# Altium footprint library con-fpc.PcbLib: 8 footprints
Each footprint in its own frame and in the unit in brackets; x right, y up, seen from the top. Pads: shape width x height; smd on the part's side, far side on the other; paste and mask are expansions set on the pad; w line width, h text height; cw(c..) or ccw(c..) is an arc to the next point about the centre after c.
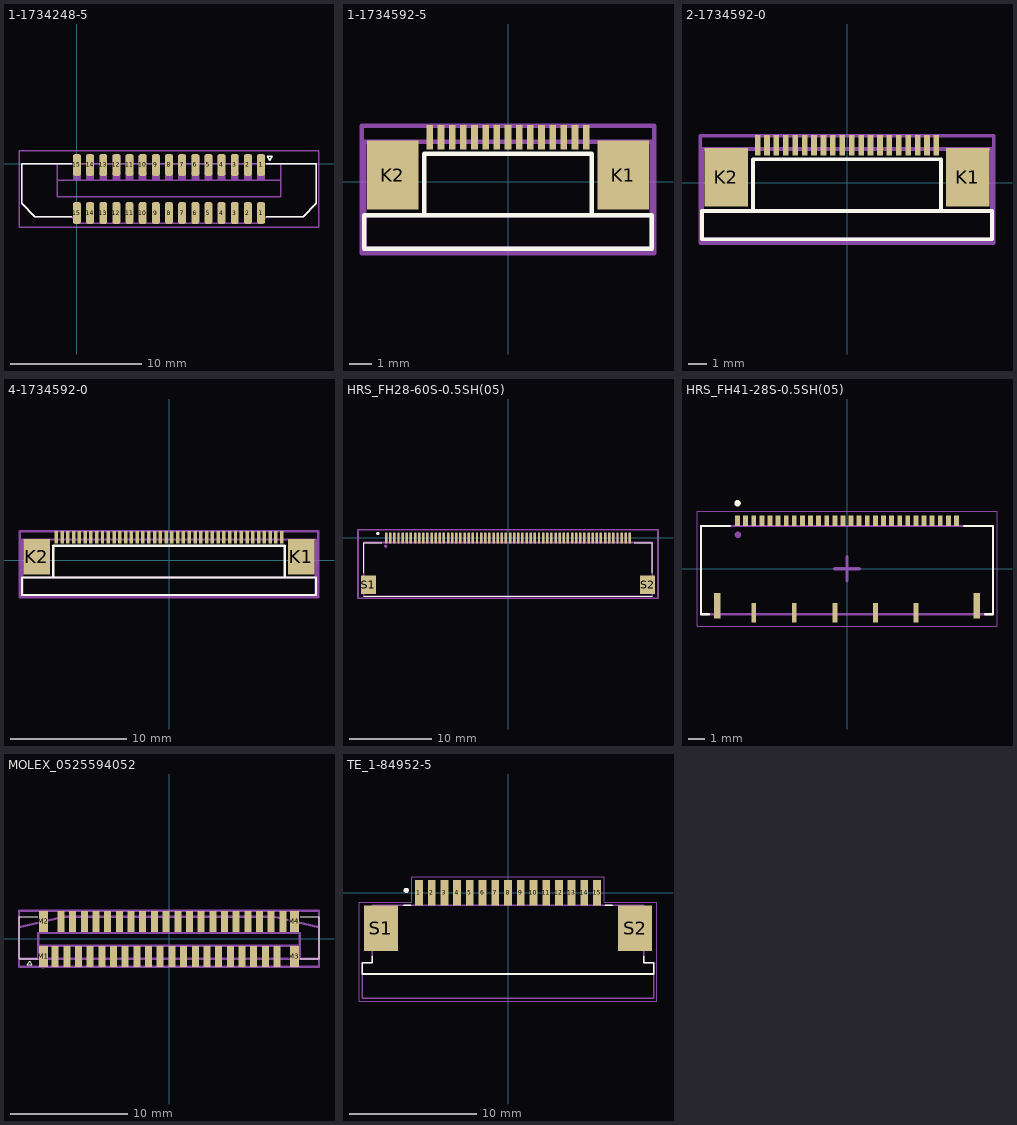
[diagram p0: the footprints below, top view; thin cyan lines are the x and y axes]

## 1-1734248-5 [mm] "FPC 15P 1.0 FPC, Zip V/T SMT"
height 7.7
pads (30):
  rrect50% 0.6x1.65 smd paste+0.05: 1(14,-3.725) 1(14,-0.075) 2(13,-3.725) 2(13,-0.075) 3(12,-3.725) 3(12,-0.075) 4(11,-3.725) 4(11,-0.075) 5(10,-3.725) 5(10,-0.075) 6(9,-3.725) 6(9,-0.075) 7(8,-3.725) 7(8,-0.075) 8(7,-3.725) 8(7,-0.075) 9(6,-3.725) 9(6,-0.075) 10(5,-3.725) 10(5,-0.075) 11(4,-3.725) 11(4,-0.075) 12(3,-3.725) 12(3,-0.075) 13(2,-3.725) 13(2,-0.075) 14(1,-3.725) 14(1,-0.075) 15(0,-3.725) 15(0,-0.075)
Top Overlay:
  lines w0.1: -0.4,-4 -3.2,-4 -4.2,-3 -4.2,0 -0.4,0 ; 14.4,-4 17.2,-4 18.2,-3 18.2,0 14.4,0 ; 14.45,0.6 14.85,0.6 14.65,0.3 14.45,0.6
Top Assembly:
  rectangle: -0.3,0 0.3,0.7
  rectangle: 0.7,0 1.3,0.7
  rectangle: 1.7,0 2.3,0.7
  rectangle: 2.7,0 3.3,0.7
  rectangle: 3.7,0 4.3,0.7
  rectangle: 4.7,0 5.3,0.7
  rectangle: 5.7,0 6.3,0.7
  rectangle: 6.7,0 7.3,0.7
  rectangle: 7.7,0 8.3,0.7
  rectangle: 8.7,0 9.3,0.7
  rectangle: 9.7,0 10.3,0.7
  rectangle: 10.7,0 11.3,0.7
  rectangle: 11.7,0 12.3,0.7
  rectangle: 12.7,0 13.3,0.7
  rectangle: 13.7,0 14.3,0.7
  rectangle: -0.3,-1.3 0.3,-0.6
  rectangle: 0.7,-1.3 1.3,-0.6
  rectangle: 1.7,-1.3 2.3,-0.6
  rectangle: 2.7,-1.3 3.3,-0.6
  rectangle: 3.7,-1.3 4.3,-0.6
  rectangle: 4.7,-1.3 5.3,-0.6
  rectangle: 5.7,-1.3 6.3,-0.6
  rectangle: 6.7,-1.3 7.3,-0.6
  rectangle: 7.7,-1.3 8.3,-0.6
  rectangle: 8.7,-1.3 9.3,-0.6
  rectangle: 9.7,-1.3 10.3,-0.6
  rectangle: 10.7,-1.3 11.3,-0.6
  rectangle: 11.7,-1.3 12.3,-0.6
  rectangle: 12.7,-1.3 13.3,-0.6
  rectangle: 13.7,-1.3 14.3,-0.6
  lines w0.1: -1.5,-1.25 15.5,-1.25 ; -1.5,0 -1.5,-2.5 15.5,-2.5 15.5,0 ; -0.4,0 -4.2,0 ; -4.2,0 18.2,0 18.2,-3 17.2,-4 14.4,-4 13.9,-4.5 0.1,-4.5 -0.4,-4 ; -4.2,0 -4.2,-3 -3.2,-4 -0.4,-4 ; -0.4,-4 -0.4,-4
Top Courtyard:
  lines w0.1: -4.4,-4.8 -4.4,1 18.4,1 18.4,-4.8 -4.4,-4.8
3D body "c-1-1734248-5-e-3d.stp": height 5.68, standoff 0, extent -4.2,-4.35 18.2,0.5

## 1-1734592-5 [mm] "TE FPC Connector 0.5/15"
pads (17):
  rect 0.3x1.1 smd: 1(3.5,2) 2(3,2) 3(2.5,2) 4(2,2) 5(1.5,2) 6(1,2) 7(0.5,2) 8(0,2) 9(-0.5,2) 10(-1,2) 11(-1.5,2) 12(-2,2) 13(-2.5,2) 14(-3,2) 15(-3.5,2)
  rect 2.3x3.1 smd: K1(5.17,0.3) K2(-5.17,0.3)
Top Overlay:
  lines w0.2: -3.75,-1.473 -3.75,1.25 3.75,1.25 3.75,-1.494 ; -6.45,-3 6.45,-3 6.45,-1.5 -6.45,-1.5 -6.45,-3
Top Assembly:
  rectangle: -3.6,1.8 -3.4,2.325
  rectangle: -3.1,1.8 -2.9,2.325
  rectangle: -2.6,1.8 -2.4,2.325
  rectangle: -2.1,1.8 -1.9,2.325
  rectangle: -1.6,1.8 -1.4,2.325
  rectangle: -1.1,1.8 -0.9,2.325
  rectangle: -0.6,1.8 -0.4,2.325
  rectangle: -0.1,1.8 0.1,2.325
  rectangle: 0.4,1.8 0.6,2.325
  rectangle: 0.9,1.8 1.1,2.325
  rectangle: 1.4,1.8 1.6,2.325
  rectangle: 1.9,1.8 2.1,2.325
  rectangle: 2.4,1.8 2.6,2.325
  rectangle: 2.9,1.8 3.1,2.325
  rectangle: 3.4,1.8 3.6,2.325
  lines w0.2: -6.45,-1.5 6.45,-1.5 ; -6.45,-3 6.45,-3 6.45,1.8 -6.45,1.8 -6.45,-3
Top Courtyard:
  lines w0.2: -6.55,-3.2 6.55,-3.2 6.55,2.5 -6.55,2.5 -6.55,-3.2
3D body "c-1-1734592-5-c-3d.stp": height 2.05, standoff 0, extent -6.465,-3.01 6.465,2.1

## 2-1734592-0 [mm] "TE FPC Connector 0.5/20"
pads (22):
  rect 0.3x1.1 smd: 1(4.75,2) 2(4.25,2) 3(3.75,2) 4(3.25,2) 5(2.75,2) 6(2.25,2) 7(1.75,2) 8(1.25,2) 9(0.75,2) 10(0.25,2) 11(-0.25,2) 12(-0.75,2) 13(-1.25,2) 14(-1.75,2) 15(-2.25,2) 16(-2.75,2) 17(-3.25,2) 18(-3.75,2) 19(-4.25,2) 20(-4.75,2)
  rect 2.3x3.1 smd: K1(6.42,0.3) K2(-6.42,0.3)
Top Overlay:
  lines w0.2: -5,-1.473 -5,1.25 5,1.25 5,-1.494 ; -7.7,-3 -7.7,-1.5 7.7,-1.5 7.7,-3 -7.7,-3
Top Assembly:
  rectangle: 4.65,1.8 4.85,2.325
  rectangle: 4.15,1.8 4.35,2.325
  rectangle: 3.65,1.8 3.85,2.325
  rectangle: 3.15,1.8 3.35,2.325
  rectangle: 2.65,1.8 2.85,2.325
  rectangle: 2.15,1.8 2.35,2.325
  rectangle: 1.65,1.8 1.85,2.325
  rectangle: 1.15,1.8 1.35,2.325
  rectangle: 0.65,1.8 0.85,2.325
  rectangle: 0.15,1.8 0.35,2.325
  rectangle: -0.35,1.8 -0.15,2.325
  rectangle: -0.85,1.8 -0.65,2.325
  rectangle: -1.35,1.8 -1.15,2.325
  rectangle: -1.85,1.8 -1.65,2.325
  rectangle: -2.35,1.8 -2.15,2.325
  rectangle: -2.85,1.8 -2.65,2.325
  rectangle: -3.35,1.8 -3.15,2.325
  rectangle: -3.85,1.8 -3.65,2.325
  rectangle: -4.35,1.8 -4.15,2.325
  rectangle: -4.85,1.8 -4.65,2.325
  lines w0.2: -7.7,-1.5 7.7,-1.5 ; -7.7,-3 -7.7,1.8 7.7,1.8 7.7,-3 -7.7,-3
Top Courtyard:
  lines w0.2: -7.8,-3.2 7.8,-3.2 7.8,2.5 -7.8,2.5 -7.8,-3.2
3D body "2-1734592-0_TE_FPC.stp": height 2, standoff -0.05, extent -7.715,-3.01 7.715,2.1

## 4-1734592-0 [mm] "TE FPC Connector 0.5/40"
pads (42):
  rect 0.3x1.1 smd: 1(9.75,2) 2(9.25,2) 3(8.75,2) 4(8.25,2) 5(7.75,2) 6(7.25,2) 7(6.75,2) 8(6.25,2) 9(5.75,2) 10(5.25,2) 11(4.75,2) 12(4.25,2) 13(3.75,2) 14(3.25,2) 15(2.75,2) 16(2.25,2) 17(1.75,2) 18(1.25,2) 19(0.75,2) 20(0.25,2) 21(-0.25,2) 22(-0.75,2) 23(-1.25,2) 24(-1.75,2) 25(-2.25,2) 26(-2.75,2) 27(-3.25,2) 28(-3.75,2) 29(-4.25,2) 30(-4.75,2) 31(-5.25,2) 32(-5.75,2) 33(-6.25,2) 34(-6.75,2) 35(-7.25,2) 36(-7.75,2) 37(-8.25,2) 38(-8.75,2) 39(-9.25,2) 40(-9.75,2)
  rect 2.3x3.1 smd: K1(11.42,0.3) K2(-11.42,0.3)
Top Overlay:
  lines w0.2: -10,-1.473 -10,1.25 10,1.25 10,-1.494 ; -12.715,-3 12.715,-3 12.715,-1.5 -12.715,-1.5 -12.715,-3
Top Assembly:
  rectangle: -9.85,1.8 -9.65,2.325
  rectangle: -9.35,1.8 -9.15,2.325
  rectangle: -8.85,1.8 -8.65,2.325
  rectangle: -8.35,1.8 -8.15,2.325
  rectangle: -7.85,1.8 -7.65,2.325
  rectangle: -7.35,1.8 -7.15,2.325
  rectangle: -6.85,1.8 -6.65,2.325
  rectangle: -6.35,1.8 -6.15,2.325
  rectangle: -5.85,1.8 -5.65,2.325
  rectangle: -5.35,1.8 -5.15,2.325
  rectangle: -4.85,1.8 -4.65,2.325
  rectangle: -4.35,1.8 -4.15,2.325
  rectangle: -3.85,1.8 -3.65,2.325
  rectangle: -3.35,1.8 -3.15,2.325
  rectangle: -2.85,1.8 -2.65,2.325
  rectangle: -2.35,1.8 -2.15,2.325
  rectangle: -1.85,1.8 -1.65,2.325
  rectangle: -1.35,1.8 -1.15,2.325
  rectangle: -0.85,1.8 -0.65,2.325
  rectangle: -0.35,1.8 -0.15,2.325
  rectangle: 0.15,1.8 0.35,2.325
  rectangle: 0.65,1.8 0.85,2.325
  rectangle: 1.15,1.8 1.35,2.325
  rectangle: 1.65,1.8 1.85,2.325
  rectangle: 2.15,1.8 2.35,2.325
  rectangle: 2.65,1.8 2.85,2.325
  rectangle: 3.15,1.8 3.35,2.325
  rectangle: 3.65,1.8 3.85,2.325
  rectangle: 4.15,1.8 4.35,2.325
  rectangle: 4.65,1.8 4.85,2.325
  rectangle: 5.15,1.8 5.35,2.325
  rectangle: 5.65,1.8 5.85,2.325
  rectangle: 6.15,1.8 6.35,2.325
  rectangle: 6.65,1.8 6.85,2.325
  rectangle: 7.15,1.8 7.35,2.325
  rectangle: 7.65,1.8 7.85,2.325
  rectangle: 8.15,1.8 8.35,2.325
  rectangle: 8.65,1.8 8.85,2.325
  rectangle: 9.15,1.8 9.35,2.325
  rectangle: 9.65,1.8 9.85,2.325
  lines w0.2: -12.7,-1.5 12.7,-1.5 ; -12.7,-3 12.7,-3 12.7,1.8 -12.7,1.8 -12.7,-3
Top Courtyard:
  lines w0.2: -12.9,-3.2 -12.9,2.5 12.9,2.5 12.9,-3.2 -12.9,-3.2
3D body "TE-FPC-4-1734592-0-c-3d.stp": height 2, standoff -0.05, extent -12.715,-3.01 12.715,2.1

## HRS_FH28-60S-0.5SH(05) [mm]
pads (62):
  rect 0.3x1.3 smd paste-2: 1(-14.75,0) 2(-14.25,0) 3(-13.75,0) 4(-13.25,0) 5(-12.75,0) 6(-12.25,0) 7(-11.75,0) 8(-11.25,0) 9(-10.75,0) 10(-10.25,0) 11(-9.75,0) 12(-9.25,0) 13(-8.75,0) 14(-8.25,0) 15(-7.75,0) 16(-7.25,0) 17(-6.75,0) 18(-6.25,0) 19(-5.75,0) 20(-5.25,0) 21(-4.75,0) 22(-4.25,0) 23(-3.75,0) 24(-3.25,0) 25(-2.75,0) 26(-2.25,0) 27(-1.75,0) 28(-1.25,0) 29(-0.75,0) 30(-0.25,0) 31(0.25,0) 32(0.75,0) 33(1.25,0) 34(1.75,0) 35(2.25,0) 36(2.75,0) 37(3.25,0) 38(3.75,0) 39(4.25,0) 40(4.75,0) 41(5.25,0) 42(5.75,0) 43(6.25,0) 44(6.75,0) 45(7.25,0) 46(7.75,0) 47(8.25,0) 48(8.75,0) 49(9.25,0) 50(9.75,0) 51(10.25,0) 52(10.75,0) 53(11.25,0) 54(11.75,0) 55(12.25,0) 56(12.75,0) 57(13.25,0) 58(13.75,0) 59(14.25,0) 60(14.75,0)
  rect 1.8x2.2 smd: S1(-16.9,-5.65) S2(16.9,-5.65)
Top Overlay:
  circle w0.2: c-15.75,0.55 r0.1
  lines w0.127: -17.45,-7.05 17.45,-7.05 ; -17.45,-4.2 -17.45,-0.55 -15.25,-0.55 ; 15.25,-0.55 17.45,-0.55 17.45,-4.2
Top Paste:
  drawing of 60 lines, arcs and shapes, not listed
Top Assembly:
  circle w0.2: c-14.8,-1 r0.1
  rectangle: -14.9,-0.6 -14.6,0.6
  rectangle: -14.4,-0.6 -14.1,0.6
  rectangle: -13.9,-0.6 -13.6,0.6
  rectangle: -13.4,-0.6 -13.1,0.6
  rectangle: -12.9,-0.6 -12.6,0.6
  rectangle: -12.4,-0.6 -12.1,0.6
  rectangle: -11.9,-0.6 -11.6,0.6
  rectangle: -11.4,-0.6 -11.1,0.6
  rectangle: -10.9,-0.6 -10.6,0.6
  rectangle: -10.4,-0.6 -10.1,0.6
  rectangle: -9.9,-0.6 -9.6,0.6
  rectangle: -9.4,-0.6 -9.1,0.6
  rectangle: -8.9,-0.6 -8.6,0.6
  rectangle: -8.4,-0.6 -8.1,0.6
  rectangle: -7.9,-0.6 -7.6,0.6
  rectangle: -7.4,-0.6 -7.1,0.6
  rectangle: -6.9,-0.6 -6.6,0.6
  rectangle: -6.4,-0.6 -6.1,0.6
  rectangle: -5.9,-0.6 -5.6,0.6
  rectangle: -5.4,-0.6 -5.1,0.6
  rectangle: -4.9,-0.6 -4.6,0.6
  rectangle: -4.4,-0.6 -4.1,0.6
  rectangle: -3.9,-0.6 -3.6,0.6
  rectangle: -3.4,-0.6 -3.1,0.6
  rectangle: -2.9,-0.6 -2.6,0.6
  rectangle: -2.4,-0.6 -2.1,0.6
  rectangle: -1.9,-0.6 -1.6,0.6
  rectangle: -1.4,-0.6 -1.1,0.6
  rectangle: -0.9,-0.6 -0.6,0.6
  rectangle: -0.4,-0.6 -0.1,0.6
  rectangle: 0.1,-0.6 0.4,0.6
  rectangle: 0.6,-0.6 0.9,0.6
  rectangle: 1.1,-0.6 1.4,0.6
  rectangle: 1.6,-0.6 1.9,0.6
  rectangle: 2.1,-0.6 2.4,0.6
  rectangle: 2.6,-0.6 2.9,0.6
  rectangle: 3.1,-0.6 3.4,0.6
  rectangle: 3.6,-0.6 3.9,0.6
  rectangle: 4.1,-0.6 4.4,0.6
  rectangle: 4.6,-0.6 4.9,0.6
  rectangle: 5.1,-0.6 5.4,0.6
  rectangle: 5.6,-0.6 5.9,0.6
  rectangle: 6.1,-0.6 6.4,0.6
  rectangle: 6.6,-0.6 6.9,0.6
  rectangle: 7.1,-0.6 7.4,0.6
  rectangle: 7.6,-0.6 7.9,0.6
  rectangle: 8.1,-0.6 8.4,0.6
  rectangle: 8.6,-0.6 8.9,0.6
  rectangle: 9.1,-0.6 9.4,0.6
  rectangle: 9.6,-0.6 9.9,0.6
  rectangle: 10.1,-0.6 10.4,0.6
  rectangle: 10.6,-0.6 10.9,0.6
  rectangle: 11.6,-0.6 11.9,0.6
  rectangle: 12.1,-0.6 12.4,0.6
  rectangle: 12.6,-0.6 12.9,0.6
  rectangle: 13.1,-0.6 13.4,0.6
  rectangle: 13.6,-0.6 13.9,0.6
  rectangle: 14.1,-0.6 14.4,0.6
  rectangle: 14.6,-0.6 14.9,0.6
  rectangle: 11.1,-0.6 11.4,0.6
  rectangle: -17.7,-6.7 -17.45,-4.6
  rectangle: 17.5,-6.7 17.7,-4.6
  lines w0.2: -17.45,-7.05 -17.45,-0.55 17.45,-0.55 17.45,-7.05 -17.45,-7.05
Top Courtyard:
  lines w0.2: -18.15,-7.3 18.15,-7.3 18.15,1 -18.15,1 -18.15,-7.3
3D body "FH28-60S-0.5SH.stp": height 2.6, standoff 0.05, extent -17.4,-7.1 17.5,0.1

## HRS_FH41-28S-0.5SH(05) [mm]
pads (35):
  rect 0.4x1.55 smd: 0(-8,-2.275) 0(8,-2.275)
  rect 0.3x1.2 smd paste-2: 0(-5.75,-2.7) 0(-3.25,-2.7) 0(-0.75,-2.7) 0(1.75,-2.7) 0(4.25,-2.7)
  rect 0.3x0.65 smd paste-1 mask+0.05: 1(-6.75,2.975) 2(-6.25,2.975) 3(-5.75,2.975) 4(-5.25,2.975) 5(-4.75,2.975) 6(-4.25,2.975) 7(-3.75,2.975) 8(-3.25,2.975) 9(-2.75,2.975) 10(-2.25,2.975) 11(-1.75,2.975) 12(-1.25,2.975) 13(-0.75,2.975) 14(-0.25,2.975) 15(0.25,2.975) 16(0.75,2.975) 17(1.25,2.975) 18(1.75,2.975) 19(2.25,2.975) 20(2.75,2.975) 21(3.25,2.975) 22(3.75,2.975) 23(4.25,2.975) 24(4.75,2.975) 25(5.25,2.975) 26(5.75,2.975) 27(6.25,2.975) 28(6.75,2.975)
Top Overlay:
  circle w0.2: c-6.75,4.05 r0.1
  lines w0.127: -8.52,-2.8 -9,-2.8 -9,2.65 -7.22,2.65 ; 7.22,2.65 9,2.65 9,-2.8 8.52,-2.8
Top Paste:
  region: 4.35,-3.3 4.15,-3.3 4.15,-2.3 4.35,-2.3
  region: 6.375,2.65 6.125,2.65 6.125,3.3 6.375,3.3
  region: 5.875,2.65 5.625,2.65 5.625,3.3 5.875,3.3
  region: 5.375,2.65 5.125,2.65 5.125,3.3 5.375,3.3
  region: 4.875,2.65 4.625,2.65 4.625,3.3 4.875,3.3
  region: 4.375,2.65 4.125,2.65 4.125,3.3 4.375,3.3
  region: 3.875,2.65 3.625,2.65 3.625,3.3 3.875,3.3
  region: 3.375,2.65 3.125,2.65 3.125,3.3 3.375,3.3
  region: 2.875,2.65 2.625,2.65 2.625,3.3 2.875,3.3
  region: 1.85,-3.3 1.65,-3.3 1.65,-2.3 1.85,-2.3
  region: 6.875,2.65 6.625,2.65 6.625,3.3 6.875,3.3
  region: 2.375,2.65 2.125,2.65 2.125,3.3 2.375,3.3
  region: 1.875,2.65 1.625,2.65 1.625,3.3 1.875,3.3
  region: 1.375,2.65 1.125,2.65 1.125,3.3 1.375,3.3
  region: 0.875,2.65 0.625,2.65 0.625,3.3 0.875,3.3
  region: -0.65,-3.3 -0.85,-3.3 -0.85,-2.3 -0.65,-2.3
  region: -5.65,-3.3 -5.85,-3.3 -5.85,-2.3 -5.65,-2.3
  region: -3.15,-3.3 -3.35,-3.3 -3.35,-2.3 -3.15,-2.3
  region: 0.375,2.65 0.125,2.65 0.125,3.3 0.375,3.3
  region: -0.125,2.65 -0.375,2.65 -0.375,3.3 -0.125,3.3
  region: -0.625,2.65 -0.875,2.65 -0.875,3.3 -0.625,3.3
  region: -1.125,2.65 -1.375,2.65 -1.375,3.3 -1.125,3.3
  region: -1.625,2.65 -1.875,2.65 -1.875,3.3 -1.625,3.3
  region: -2.125,2.65 -2.375,2.65 -2.375,3.3 -2.125,3.3
  region: -2.625,2.65 -2.875,2.65 -2.875,3.3 -2.625,3.3
  region: -3.125,2.65 -3.375,2.65 -3.375,3.3 -3.125,3.3
  region: -3.625,2.65 -3.875,2.65 -3.875,3.3 -3.625,3.3
  region: -4.125,2.65 -4.375,2.65 -4.375,3.3 -4.125,3.3
  region: -4.625,2.65 -4.875,2.65 -4.875,3.3 -4.625,3.3
  region: -5.125,2.65 -5.375,2.65 -5.375,3.3 -5.125,3.3
  region: -5.625,2.65 -5.875,2.65 -5.875,3.3 -5.625,3.3
  region: -6.125,2.65 -6.375,2.65 -6.375,3.3 -6.125,3.3
  region: -6.625,2.65 -6.875,2.65 -6.875,3.3 -6.625,3.3
Top Assembly:
  circle w0.2: c-6.725,2.1 r0.1
  lines w0.127: -9,-2.8 9,-2.8 9,2.65 -9,2.65 -9,-2.8
Top Courtyard:
  lines w0.05: -9.25,-3.55 9.25,-3.55 9.25,3.55 -9.25,3.55 -9.25,-3.55
  lines w0.2: -0.75,0 0.75,0 ; 0,-0.75 0,0.75
3D body "FH41-28S-0.5SH.stp": height 2.48, standoff -0.02, extent -9,-3.275 9,2.975

## MOLEX_0525594052 [mm] "Molex 0525594052 FPC 40pin 0.5mm vertical"
height 4
pads (44):
  rect 0.6x1.8 smd: 1(-9.75,-1.5) 2(-9.25,1.5) 3(-8.75,-1.5) 4(-8.25,1.5) 5(-7.75,-1.5) 6(-7.25,1.5) 7(-6.75,-1.5) 8(-6.25,1.5) 9(-5.75,-1.5) 10(-5.25,1.5) 11(-4.75,-1.5) 12(-4.25,1.5) 13(-3.75,-1.5) 14(-3.25,1.5) 15(-2.75,-1.5) 16(-2.25,1.5) 17(-1.75,-1.5) 18(-1.25,1.5) 19(-0.75,-1.5) 20(-0.25,1.5) 21(0.25,-1.5) 22(0.75,1.5) 23(1.25,-1.5) 24(1.75,1.5) 25(2.25,-1.5) 26(2.75,1.5) 27(3.25,-1.5) 28(3.75,1.5) 29(4.25,-1.5) 30(4.75,1.5) 31(5.25,-1.5) 32(5.75,1.5) 33(6.25,-1.5) 34(6.75,1.5) 35(7.25,-1.5) 36(7.75,1.5) 37(8.25,-1.5) 38(8.75,1.5) 39(9.25,-1.5) 40(9.75,1.5)
  rect 0.8x1.8 smd: M1(-10.75,-1.5) M2(-10.75,1.5) M3(10.75,-1.5) M4(10.75,1.5)
Top Overlay:
  lines w0.1: -11.25,-1.7 -12.85,-1.7 -12.85,1.9 -11.25,1.9 ; 11.25,-1.7 12.85,-1.7 12.85,1.9 11.25,1.9 ; -12.15,-2.2 -11.75,-2.2 -11.95,-1.9 -12.15,-2.2
Top Assembly:
  circle w0.2: c-10.8,-2.2 r0.224
  lines w0.2: -11.2,-1.7 -11.2,0.5 11.2,0.5 11.2,-1.7 ; -11.2,-0.6 11.2,-0.6 ; -12.85,-1.7 12.85,-1.7 12.85,1 9,1.9 -9,1.9 -12.85,1 -12.85,-1.7
Top Courtyard:
  lines w0.2: -12.85,-2.4 -12.85,2.4 12.85,2.4 12.85,-2.4 -12.85,-2.4
3D body "Molex 525594052.stp": height 3.9, standoff 0, extent -12.85,-1.65 12.85,1.85

## TE_1-84952-5 [mm] "FPC Connector SKT 15 POS 1 mm Bottom contacts RA SMD"
height 2.74
pads (17):
  rect 0.61x2 smd: 1(-7,0) 2(-6,0) 3(-5,0) 4(-4,0) 5(-3,0) 6(-2,0) 7(-1,0) 8(0,0) 9(1,0) 10(2,0) 11(3,0) 12(4,0) 13(5,0) 14(6,0) 15(7,0)
  rect 2.68x3.6 smd: S1(-9.99,-2.8) S2(9.99,-2.8)
Top Overlay:
  circle w0.2: c-8,0.17 r0.1
  lines w0.127: -10.675,-5 -10.675,-5.51 -11.46,-5.51 -11.46,-6.4 11.46,-6.4 11.46,-5.51 10.675,-5.51 10.675,-5 ; -8.2,-1 -7.64,-1 ; 7.64,-1 8.2,-1
Top Assembly:
  lines w0.05: -11.71,-8.55 11.71,-8.55 11.71,-0.75 7.555,-0.75 7.555,1.25 -7.555,1.25 -7.555,-0.75 -11.71,-0.75 -11.71,-8.55
Mechanical 13:
  circle w0.2: c-8,0.17 r0.1
  lines w0.127: -11.46,-6.4 11.46,-6.4 ; -11.46,-6.4 -11.46,-5.51 -10.675,-5.51 -10.675,-1 10.675,-1 10.675,-5.51 11.46,-5.51 11.46,-6.4 ; -11.46,-6.4 -11.46,-8.3 11.46,-8.3 11.46,-6.4
3D body "1-84952-5.stp": height 2.54, standoff -0.02, extent -11.46,-6.43 11.46,0.11